# Altium schematic symbol library MB0033A.01.A.1.Schlib: 1 symbol
Pins are listed as number, name and electrical type; pins without a type are passive.

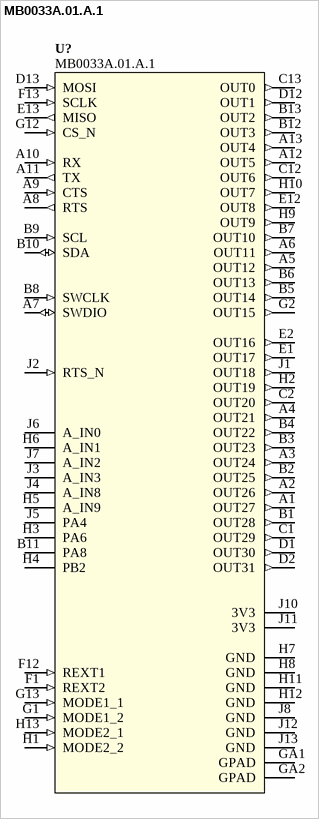
[diagram p0: symbol MB0033A.01.A.1]

## MB0033A.01.A.1
designator U?
Manufacturer: MESHEVEN; ID: MOD-0100-0304; DefaultDesignator: U?; Class: Module; Sub Class: PCB - Module; Manufacturer_PN: MB0033A.01.A.1; Technology: SMT
footprint MB0033A.01.A.1
pins: A1 OUT27 (out), A2 OUT26 (out), A3 OUT24 (out), A4 OUT21 (out), A5 OUT12 (out), A6 OUT11 (out), A7 SWDIO (io), A8 RTS (out), A9 CTS (in), A10 RX (in), A11 TX (out), A12 OUT5 (out), A13 OUT4 (out), B1 OUT28 (out), B2 OUT25 (out), B3 OUT23 (out), B4 OUT22 (out), B5 OUT14 (out), B6 OUT13 (out), B7 OUT10 (out), B8 SWCLK (in), B9 SCL (in), B10 SDA (io), B11 PA8, B12 OUT3 (out), B13 OUT2 (out), C1 OUT29 (out), C2 OUT20 (out), C12 OUT6 (out), C13 OUT0 (out), D1 OUT30 (out), D2 OUT31 (out), D12 OUT1 (out), D13 MOSI (in), E1 OUT17 (out), E2 OUT16 (out), E12 OUT8 (out), E13 MISO (out), F1 REXT2 (in), F12 REXT1 (in), F13 SCLK (in), G1 MODE1_2 (in), G2 OUT15 (out), G12 CS_N (in), G13 MODE1_1 (in), GA1 GPAD (power), GA2 GPAD (power), H1 MODE2_2 (in), H2 OUT19 (out), H3 PA6, H4 PB2, H5 A_IN9, H6 A_IN1, H7 GND (power), H8 GND (power), H9 OUT9 (out), H10 OUT7 (out), H11 GND (power), H12 GND (power), H13 MODE2_1 (in), J1 OUT18 (out), J2 RTS_N (in), J3 A_IN3, J4 A_IN8, J5 PA4, J6 A_IN0, J7 A_IN2, J8 GND (power), J10 3V3 (power), J11 3V3 (power), J12 GND (power), J13 GND (power)